# Altium integrated library 0805YC102JAT2A.IntLib: 1 symbol
Pins are listed as number, name and electrical type; pins without a type are passive.

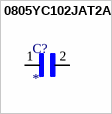
[diagram p0: symbol 0805YC102JAT2A]

## 0805YC102JAT2A
designator C?
CAP CER 1000PF 16V 5% X7R 0805; MP: 0805YC102JAT2A; Package: None; Price: None; Value: *; Availability: Unavailable
footprint CAPC2012X94N
pins: 1, 2